# EAGLE library part 7-SEGMENT-4DIGIT-COUNTER (library - Jins eagle lbr)
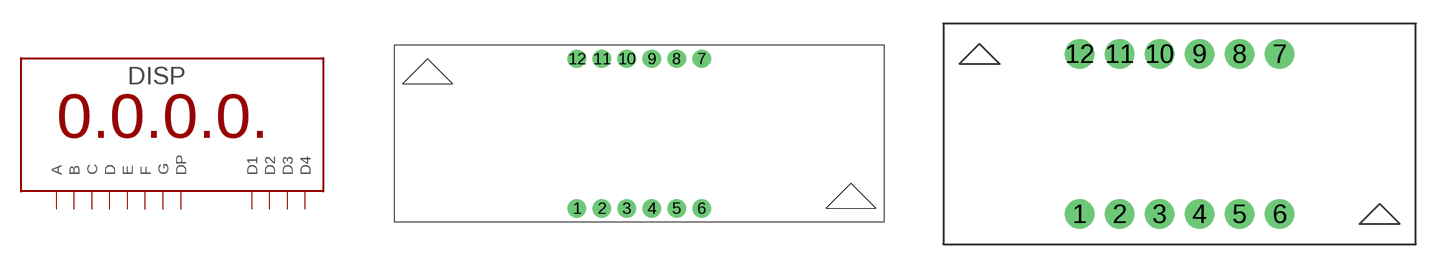
[diagram p12: symbol with the pads of 7-SEGMENT-4DIGIT-50X19MM; footprints 7-SEGMENT-4DIGIT-50X19MM, 7-SEGMENT-4DIGIT-30X14MM]

Designator prefix DISP

## 7-SEGMENT-4DIGIT-COUNTERPTH  [7-SEGMENT-4DIGIT-50X19MM]
1  E
2  D
3  DP
4  C
5  G
6  D4
7  B
8  D3
9  D2
10  F
11  A
12  D1

## 7-SEGMENT-4DIGIT-COUNTERPTH-S  [7-SEGMENT-4DIGIT-30X14MM]
Pads as for 7-SEGMENT-4DIGIT-50X19MM

## Footprint 7-SEGMENT-4DIGIT-50X19MM (pad centres in mm)
drill 0.9 pad 1.88: 1 -6.35,-7.62; 2 -3.81,-7.62; 3 -1.27,-7.62; 4 1.27,-7.62; 5 3.81,-7.62; 6 6.35,-7.62; 7 6.35,7.62; 8 3.81,7.62; 9 1.27,7.62; 10 -1.27,7.62; 11 -3.81,7.62; 12 -6.35,7.62

## Footprint 7-SEGMENT-4DIGIT-30X14MM (pad centres in mm)
drill 0.9 pad 1.88: 1 -6.35,-5.08; 2 -3.81,-5.08; 3 -1.27,-5.08; 4 1.27,-5.08; 5 3.81,-5.08; 6 6.35,-5.08; 7 6.35,5.08; 8 3.81,5.08; 9 1.27,5.08; 10 -1.27,5.08; 11 -3.81,5.08; 12 -6.35,5.08